# Altium schematic symbol library ADR363BUJZ-REEL7.SchLib: 1 symbol
Pins are listed as number, name and electrical type; pins without a type are passive.

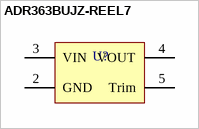
[diagram p0: symbol ADR363BUJZ-REEL7]

## ADR363BUJZ-REEL7
designator U?
Low Power, Low Noise Voltage References
pins: 2 GND, 3 VIN, 4 VOUT, 5 Trim